# EAGLE library part TRINKET (library trinket)
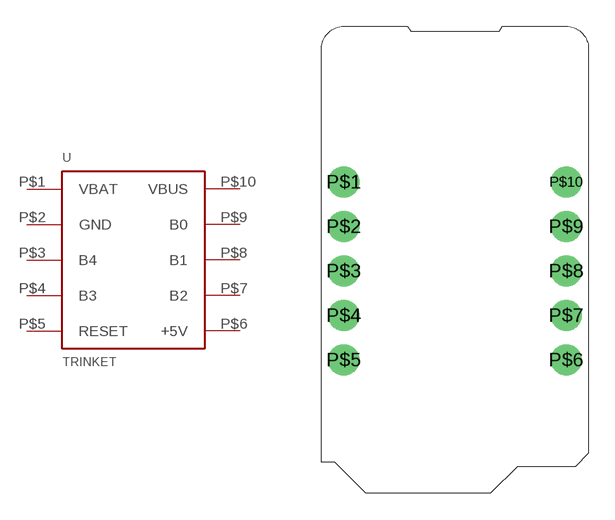
[diagram p0: symbol with the pads of TRINKET; footprint TRINKET]

Designator prefix -

## TRINKET  [TRINKET]
P$1  VBAT  pwr
P$2  GND  pwr
P$3  B4
P$4  B3
P$5  RESET
P$6  +5V  pwr
P$7  B2
P$8  B1
P$9  B0
P$10  VBUS  pwr

## Footprint TRINKET (pad centres in mm)
drill 1.016 pad 1.778: P$1 -6.35,3.81; P$2 -6.35,1.27; P$3 -6.35,-1.27; P$4 -6.35,-3.81; P$5 -6.35,-6.35; P$6 6.35,-6.35; P$7 6.35,-3.81; P$8 6.35,-1.27; P$9 6.35,1.27; P$10 6.35,3.81